# Altium footprint library AltiumOpenLibs.PcbLib: 173 footprints (part 11 of 11)
Each footprint in its own frame and in the unit in brackets; x right, y up, seen from the top. Pads: shape width x height; smd on the part's side, far side on the other; paste and mask are expansions set on the pad; w line width, h text height; cw(c..) or ccw(c..) is an arc to the next point about the centre after c.
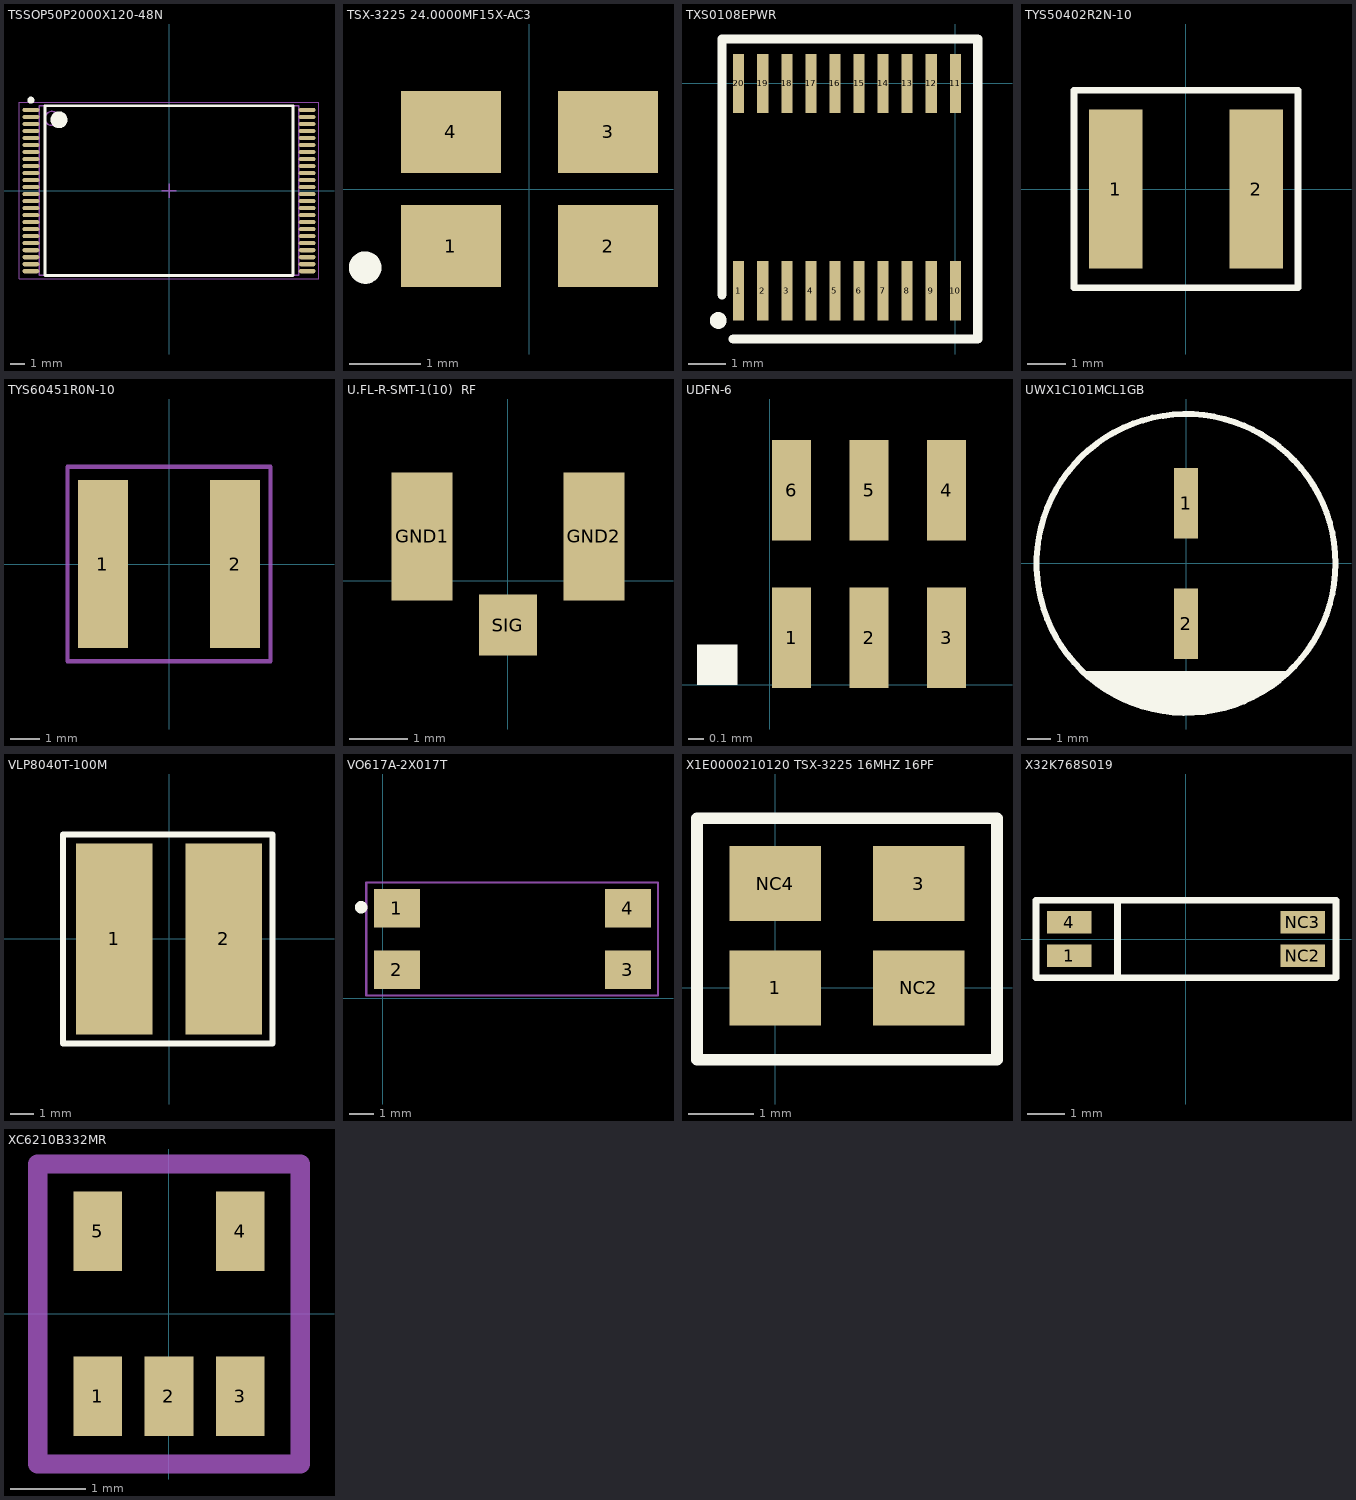
[diagram p10: the footprints below, top view; thin cyan lines are the x and y axes]

## TSSOP50P2000X120-48N [mm] "TSSOP, 48-Leads, Body 12.00x18.40mm, Pitch 0.50mm, IPC Medium Density"
height 1.2
pads (48):
  oval 1.2x0.3 smd: 1(-9.85,5.75) 2(-9.85,5.25) 3(-9.85,4.75) 4(-9.85,4.25) 5(-9.85,3.75) 6(-9.85,3.25) 7(-9.85,2.75) 8(-9.85,2.25) 9(-9.85,1.75) 10(-9.85,1.25) 11(-9.85,0.75) 12(-9.85,0.25) 13(-9.85,-0.25) 14(-9.85,-0.75) 15(-9.85,-1.25) 16(-9.85,-1.75) 17(-9.85,-2.25) 18(-9.85,-2.75) 19(-9.85,-3.25) 20(-9.85,-3.75) 21(-9.85,-4.25) 22(-9.85,-4.75) 23(-9.85,-5.25) 24(-9.85,-5.75) 25(9.85,-5.75) 26(9.85,-5.25) 27(9.85,-4.75) 28(9.85,-4.25) 29(9.85,-3.75) 30(9.85,-3.25) 31(9.85,-2.75) 32(9.85,-2.25) 33(9.85,-1.75) 34(9.85,-1.25) 35(9.85,-0.75) 36(9.85,-0.25) 37(9.85,0.25) 38(9.85,0.75) 39(9.85,1.25) 40(9.85,1.75) 41(9.85,2.25) 42(9.85,2.75) 43(9.85,3.25) 44(9.85,3.75) 45(9.85,4.25) 46(9.85,4.75) 47(9.85,5.25) 48(9.85,5.75)
Top Overlay:
  circle w0.6: c-7.85,5.05 r0.3
  circle w0.25: c-9.85,6.45 r0.125
  lines w0.2: -8.85,-6.05 8.85,-6.05 8.85,6.05 -8.85,6.05 -8.85,-6.05
Mechanical 13:
  circle w0.1: c-8.35,5.15 r0.5
  lines w0.1: -9.25,-6.05 9.25,-6.05 9.25,6.05 -9.25,6.05 -9.25,-6.05
Mechanical 15:
  lines w0.05: -10.7,-6.3 10.7,-6.3 10.7,6.3 -10.7,6.3 -10.7,-6.3
  lines w0.1: -0.5,0 0.5,0 ; 0,-0.5 0,0.5
3D body "SW3dPS-TSOP48.STEP": height 1.2, standoff -0.06, extent -10.05,-6.05 10.05,6.05

## TSX-3225 24.0000MF15X-AC3 [mm]
pads (4):
  rect 1.4x1.15 smd: 1(-1.1,-0.8) 2(1.1,-0.8) 3(1.1,0.8) 4(-1.1,0.8)
Top Overlay:
  circle w0.254: c-2.3,-1.1 r0.1

## TXS0108EPWR [mm]
pads (20):
  rect 0.3x1.6 smd: 1(-5.85,-5.6) 2(-5.2,-5.6) 3(-4.55,-5.6) 4(-3.9,-5.6) 5(-3.25,-5.6) 6(-2.6,-5.6) 7(-1.95,-5.6) 8(-1.3,-5.6) 9(-0.65,-5.6) 10(0,-5.6) 11(0,0) 12(-0.65,0) 13(-1.3,0) 14(-1.95,0) 15(-2.6,0) 16(-3.25,0) 17(-3.9,0) 18(-4.55,0) 19(-5.2,0) 20(-5.85,0)
Top Overlay:
  circle w0.254: c-6.4,-6.4 r0.1
  lines w0.254: -6.3,-5.7 -6.3,1.2 0.6,1.2 0.6,-6.9 -6,-6.9
3D body "SW3dPS-TSSOP-20.STEP": height 1.2, standoff 0, extent -6.2,-5.975 0.4,0.575

## TYS50402R2N-10 [mm]
pads (2):
  rect 1.4x4.2 smd: 1(-1.85,0) 2(1.85,0)
Top Overlay:
  lines w0.178: -2.95,-2.6 2.95,-2.6 2.95,2.6 -2.95,2.6 -2.95,-2.6

## TYS60451R0N-10 [mm]
pads (2):
  rect 1.7x5.7 smd: 1(-2.25,0) 2(2.25,0)
Mechanical 15:
  lines w0.15: -3.45,-3.3 3.45,-3.3 3.45,3.3 -3.45,3.3 -3.45,-3.3
3D body: height 4.5, standoff 0, extent -3,-3 3,3

## U.FL-R-SMT-1(10)  RF [mm]
pads (3):
  rect 1.05x2.2 smd: GND1(-1.475,0.763) GND2(1.475,0.763)
  rect 1x1.05 smd: SIG(0,-0.763)
3D body "SW3dPS-U.FL-R-SMT-1.STEP": height 1.25, standoff -0.01, extent -1.5,-0.85 1.5,2.25

## UDFN-6 [mm]
pads (6):
  rect 0.25x0.65 smd: 1(0.14,0.305) 2(0.64,0.305) 3(1.14,0.305) 4(1.14,1.255) 5(0.64,1.255) 6(0.14,1.255)
Top Overlay:
  rectangle: -0.47,0 -0.21,0.26
3D body: height 0.55, standoff 0.02, extent -0.085,0.27 1.365,1.27

## UWX1C101MCL1GB [mm]
pads (2):
  rect 1x3 smd: 1(0,2.55) 2(0,-2.55)
Top Overlay:
  circle w0.254: c0,0 r6.329
  region: 4.45,-4.575 3.5,-5.325 1.8,-6.125 -0.25,-6.375 -1.75,-6.125 -2.85,-5.625 -3.85,-5.075 -4.25,-4.675 -4.4,-4.575

## VLP8040T-100M [mm]
pads (2):
  rect 3.3x8.2 smd: 1(-2.35,0) 2(2.35,0)
Top Overlay:
  lines w0.254: -4.55,-4.5 4.45,-4.5 4.45,4.5 -4.55,4.5 -4.55,-4.5

## VO617A-2X017T [mm]
pads (4):
  rect 1.9x1.6 smd: 1(0.59,3.74) 2(0.59,1.2) 3(10.19,1.2) 4(10.19,3.74)
Top Overlay:
  circle w0.254: c-0.9,3.79 r0.13
Mechanical 15:
  lines w0.1: -0.68,0.12 -0.68,4.82 -0.47,4.82 11.44,4.82 11.44,0.12 -0.68,0.12

## X1E0000210120 TSX-3225 16MHZ 16PF [mm]
pads (4):
  rect 1.4x1.15 smd: 1(0,0) 3(2.2,1.6) NC2(2.2,0) NC4(0,1.6)
Top Overlay:
  lines w0.178: -1.2,-1.1 3.4,-1.1 3.4,2.6 -0.9,2.6 -1.2,2.6 -1.2,-1.1

## X32K768S019 [mm]
pads (4):
  rect 1.2x0.6 smd: 1(-3.15,-0.45) 4(-3.15,0.45) NC2(3.15,-0.45) NC3(3.15,0.45)
Top Overlay:
  lines w0.178: -1.85,-1.05 -1.85,1.05 ; -4.05,-1.05 4.05,-1.05 4.05,1.05 -4.05,1.05 -4.05,-1.05

## XC6210B332MR [mm]
pads (5):
  rect 0.65x1.06 smd: 1(-0.95,-1.1) 2(0,-1.1) 3(0.95,-1.1) 4(0.95,1.1) 5(-0.95,1.1)
Mechanical 15:
  lines w0.254: -1.75,-2 -1.75,2 1.75,2 1.75,-2 -1.75,-2